# Altium schematic symbol library conn_disp_hdmi.SchLib: 11 symbols
Pins are listed as number, name and electrical type; pins without a type are passive.

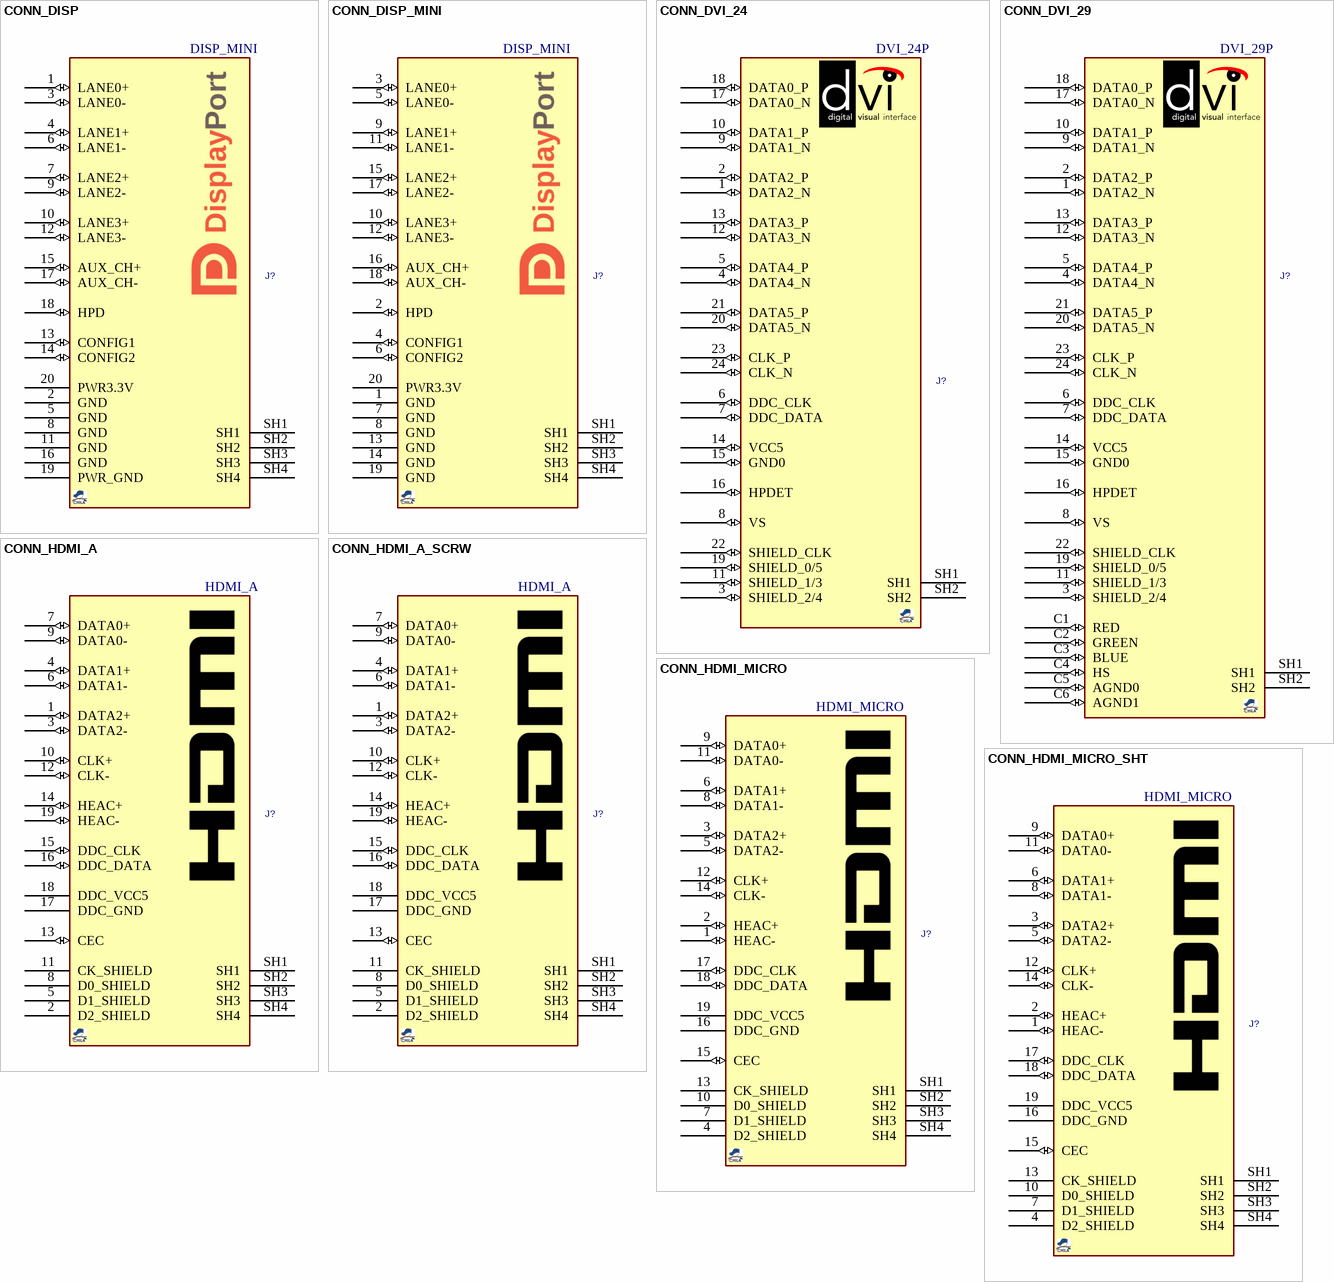
[diagram p0: symbols CONN_DISP to CONN_HDMI_MICRO_SHT]

## CONN_DISP
designator J?, comment DISP_MINI
CONN, Display Port, Right-Angle; MANF: Molex, JAE; MANF_P#: 47272-0001, 47272-0024, DP1RD20JQ1R400, DP1RD20JQ2R400; PARAM: Display Port, MINI, Right-Angle; MANF_P#2: 105019-0001, 0472720024, DP1R020JQ3; PRICE: 5.7$; VALUE: DISP_MINI
footprint DISPPORT (Footprint not found)
pins: 1 LANE0+ (io), 2 GND, 3 LANE0- (io), 4 LANE1+ (io), 5 GND, 6 LANE1- (io), 7 LANE2+ (io), 8 GND, 9 LANE2- (io), 10 LANE3+ (io), 11 GND, 12 LANE3- (io), 13 CONFIG1 (io), 14 CONFIG2 (io), 15 AUX_CH+ (io), 16 GND, 17 AUX_CH- (io), 18 HPD (io), 19 PWR_GND, 20 PWR3.3V, SH1, SH2, SH3, SH4

## CONN_DISP_MINI
designator J?, comment DISP_MINI
CONN, Display Port, MINI, Right-Angle, tunderbolt; MANF: Molex; MANF_P#: 105081-0001, 64L020S; PARAM: Display Port, MINI, Right-Angle; PRICE: -$; VALUE: DISP_MINI
footprint DISP_MINI (CONN, Display Port MINI, Right-Angle)
pins: 1 GND, 2 HPD (io), 3 LANE0+ (io), 4 CONFIG1 (io), 5 LANE0- (io), 6 CONFIG2 (io), 7 GND, 8 GND, 9 LANE1+ (io), 10 LANE3+ (io), 11 LANE1- (io), 12 LANE3- (io), 13 GND, 14 GND, 15 LANE2+ (io), 16 AUX_CH+ (io), 17 LANE2- (io), 18 AUX_CH- (io), 19 GND, 20 PWR3.3V, SH1, SH2, SH3, SH4

## CONN_DVI_24
designator J?, comment DVI_24P
CONN, DVI, Right-Angle, 24P; PARAM: Display Port, MINI, Right-Angle; MANF: -; MANF_P#: -; PRICE: 5.7$; VALUE: DVI_24P
footprint DVI_29_RA_F (KVIX-DA29S-N-W)
pins: 1 DATA2_N (io), 2 DATA2_P (io), 3 SHIELD_2/4 (io), 4 DATA4_N (io), 5 DATA4_P (io), 6 DDC_CLK (io), 7 DDC_DATA (io), 8 VS (io), 9 DATA1_N (io), 10 DATA1_P (io), 11 SHIELD_1/3 (io), 12 DATA3_N (io), 13 DATA3_P (io), 14 VCC5 (io), 15 GND0 (io), 16 HPDET (io), 17 DATA0_N (io), 18 DATA0_P (io), 19 SHIELD_0/5 (io), 20 DATA5_N (io), 21 DATA5_P (io), 22 SHIELD_CLK (io), 23 CLK_P (io), 24 CLK_N (io), SH1, SH2

## CONN_DVI_29
designator J?, comment DVI_29P
CONN, DVI-I, Right-Angle, 29P, RECEPTACLE; MANF: KYCON; MANF_P#: KVIX-DA29S-N-W; VALUE: DVI_29P
footprint DVI_29_RA_F (KVIX-DA29S-N-W)
pins: 1 DATA2_N (io), 2 DATA2_P (io), 3 SHIELD_2/4 (io), 4 DATA4_N (io), 5 DATA4_P (io), 6 DDC_CLK (io), 7 DDC_DATA (io), 8 VS (io), 9 DATA1_N (io), 10 DATA1_P (io), 11 SHIELD_1/3 (io), 12 DATA3_N (io), 13 DATA3_P (io), 14 VCC5 (io), 15 GND0 (io), 16 HPDET (io), 17 DATA0_N (io), 18 DATA0_P (io), 19 SHIELD_0/5 (io), 20 DATA5_N (io), 21 DATA5_P (io), 22 SHIELD_CLK (io), 23 CLK_P (io), 24 CLK_N (io), C1 RED (io), C2 GREEN (io), C3 BLUE (io), C4 HS (io), C5 AGND0 (io), C6 AGND1 (io), SH1, SH2

## CONN_HDMI_A
designator J?, comment HDMI_A
CONN, HDMI, Receptacle, TYPE A, 19P, RIGH-ANGLE; MANF: Molex, WURTH; MANF_P#: 208658-1051, 47151-0001, 500254-1927; PARAM: Receptacle, 19P, RIGH-ANGLE; MANF_P#2: 685119134923; PRICE: 2.57$; VALUE: HDMI_A
footprint HDMI_A (CONN, HDMI, TYPE A, 19PIN)
pins: 1 DATA2+ (io), 2 D2_SHIELD, 3 DATA2- (io), 4 DATA1+ (io), 5 D1_SHIELD, 6 DATA1- (io), 7 DATA0+ (io), 8 D0_SHIELD, 9 DATA0- (io), 10 CLK+ (io), 11 CK_SHIELD, 12 CLK- (io), 13 CEC (io), 14 HEAC+ (io), 15 DDC_CLK (io), 16 DDC_DATA (io), 17 DDC_GND, 18 DDC_VCC5, 19 HEAC- (io), SH1, SH2, SH3, SH4

## CONN_HDMI_A_SCRW
designator J?, comment HDMI_A
CONN, HDMI, Receptacle, TYPE A, 19P, RIGH-ANGLE; MANF: WURTH; MANF_P#: 685119135725; PARAM: Receptacle, 19P, RIGH-ANGLE; PRICE: 2.57$; VALUE: HDMI_A
footprint HDMI_A (CONN, HDMI, TYPE A, 19PIN)
pins: 1 DATA2+ (io), 2 D2_SHIELD, 3 DATA2- (io), 4 DATA1+ (io), 5 D1_SHIELD, 6 DATA1- (io), 7 DATA0+ (io), 8 D0_SHIELD, 9 DATA0- (io), 10 CLK+ (io), 11 CK_SHIELD, 12 CLK- (io), 13 CEC (io), 14 HEAC+ (io), 15 DDC_CLK (io), 16 DDC_DATA (io), 17 DDC_GND, 18 DDC_VCC5, 19 HEAC- (io), SH1, SH2, SH3, SH4

## CONN_HDMI_MICRO
designator J?, comment HDMI_MICRO
CONN, HDMI, Receptacle, TYPE D, 19P, RIGH-ANGLE; MANF: WURTH; MANF_P#: 0467650301; PARAM: Receptacle, 19P, RIGH-ANGLE; PRICE: 1=3.1, 10=2.57, 50=2.1456, 100=1.9034 (USD); VALUE: HDMI_MICRO
footprint HDMI_MICRO (CONN, HDMI, MICRO,  MOLEX 0467650301)
pins: 1 HEAC- (io), 2 HEAC+ (io), 3 DATA2+ (io), 4 D2_SHIELD, 5 DATA2- (io), 6 DATA1+ (io), 7 D1_SHIELD, 8 DATA1- (io), 9 DATA0+ (io), 10 D0_SHIELD, 11 DATA0- (io), 12 CLK+ (io), 13 CK_SHIELD, 14 CLK- (io), 15 CEC (io), 16 DDC_GND, 17 DDC_CLK (io), 18 DDC_DATA (io), 19 DDC_VCC5, SH1, SH2, SH3, SH4

## CONN_HDMI_MICRO_SHT
designator J?, comment HDMI_MICRO
CONN, HDMI, Receptacle, TYPE D, 19P, RIGH-ANGLE; MANF: WURTH; MANF_P#: 685119248123; PARAM: Receptacle, 19P, RIGH-ANGLE; PRICE: 3$; VALUE: HDMI_MICRO
footprint HDMI_MICRO (CONN, HDMI, MICRO,  MOLEX 0467650301)
pins: 1 HEAC- (io), 2 HEAC+ (io), 3 DATA2+ (io), 4 D2_SHIELD, 5 DATA2- (io), 6 DATA1+ (io), 7 D1_SHIELD, 8 DATA1- (io), 9 DATA0+ (io), 10 D0_SHIELD, 11 DATA0- (io), 12 CLK+ (io), 13 CK_SHIELD, 14 CLK- (io), 15 CEC (io), 16 DDC_GND, 17 DDC_CLK (io), 18 DDC_DATA (io), 19 DDC_VCC5, SH1, SH2, SH3, SH4

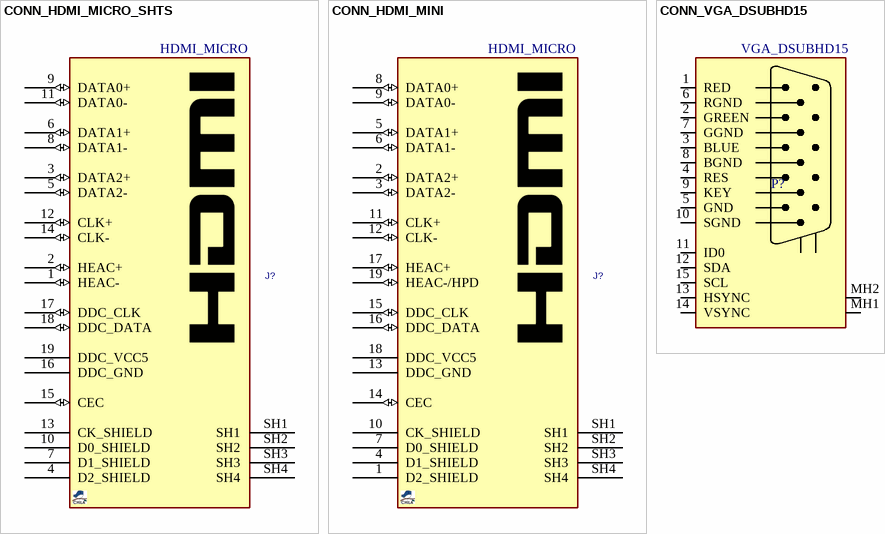
[diagram p1: symbols CONN_HDMI_MICRO_SHTS to CONN_VGA_DSUBHD15]

## CONN_HDMI_MICRO_SHTS
designator J?, comment HDMI_MICRO
CONN, HDMI, Receptacle, TYPE D, 19P, RIGH-ANGLE; MANF: Amphenol FCI, WURTH; MANF_P#: 10118241-001RLF, 685119248223; PARAM: Receptacle, 19P, RIGH-ANGLE; PRICE: 1=3.1, 10=2.57, 50=2.1456, 100=1.9034 (USD); VALUE: HDMI_MICRO
footprint HDMI_MICRO_SHT (CONN, HDMI, MICRO, FCI 10118241-001rfl)
pins: 1 HEAC- (io), 2 HEAC+ (io), 3 DATA2+ (io), 4 D2_SHIELD, 5 DATA2- (io), 6 DATA1+ (io), 7 D1_SHIELD, 8 DATA1- (io), 9 DATA0+ (io), 10 D0_SHIELD, 11 DATA0- (io), 12 CLK+ (io), 13 CK_SHIELD, 14 CLK- (io), 15 CEC (io), 16 DDC_GND, 17 DDC_CLK (io), 18 DDC_DATA (io), 19 DDC_VCC5, SH1, SH2, SH3, SH4

## CONN_HDMI_MINI
designator J?, comment HDMI_MICRO
CONN, HDMI, Receptacle, TYPE D, 19P, RIGH-ANGLE; MANF: WURTH; MANF_P#: 685119136923; PARAM: Receptacle, 19P, RIGH-ANGLE; PRICE: 3$; VALUE: HDMI_MICRO
footprint HDMI_MICRO (CONN, HDMI, MICRO,  MOLEX 0467650301)
pins: 1 D2_SHIELD, 2 DATA2+ (io), 3 DATA2- (io), 4 D1_SHIELD, 5 DATA1+ (io), 6 DATA1- (io), 7 D0_SHIELD, 8 DATA0+ (io), 9 DATA0- (io), 10 CK_SHIELD, 11 CLK+ (io), 12 CLK- (io), 13 DDC_GND, 14 CEC (io), 15 DDC_CLK (io), 16 DDC_DATA (io), 17 HEAC+ (io), 18 DDC_VCC5, 19 HEAC-/HPD (io), SH1, SH2, SH3, SH4

## CONN_VGA_DSUBHD15
designator P?, comment VGA_DSUBHD15
CONN, VGA, DSUB, HD, 15PIN, R/A, FEMALE, THD; MANF_P#: -; MANF: -; VALUE: VGA_DSUBHD15
footprint DSUBHD_15RF (D'SUB MINIATURE HIGH DENSITY 15p, RightAngle, Female, VGA)
pins: 1 RED, 2 GREEN, 3 BLUE, 4 RES, 5 GND, 6 RGND, 7 GGND, 8 BGND, 9 KEY, 10 SGND, 11 ID0, 12 SDA, 13 HSYNC, 14 VSYNC, 15 SCL, MH1, MH2